# EAGLE library part 750811016 (library derek)
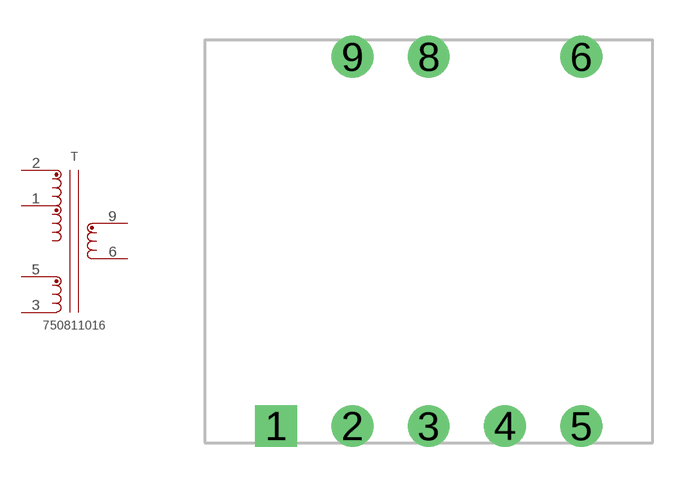
[diagram p8: symbol with the pads of 750811016; footprint 750811016]

Designator prefix T

## 750811016  [750811016]
1  1
2  2
3  3
5  5
6  6
9  9

## Footprint 750811016 (pad centres in mm)
drill 1.17 square: 1 -6.4,-7.75
drill 1.17: 2 -3.2,-7.75; 3 0,-7.75; 4 3.2,-7.75; 5 6.4,-7.75; 6 6.4,7.75; 8 0,7.75; 9 -3.2,7.75